# EAGLE library part MC74HC238A (library maincomputer parts)
MC74HC238A 1-of-8 Decoder/ Demultiplexer High−Performance Silicon−Gate CMOS The MC74HC238A is identical in pinout to the LS238. The device inputs are compatible with standard CMOS outputs; with pullup resistors, they are compatible with LSTTL outputs. The HC238A decodes a three−bit Address to one−of−eight active−high outputs. This device features three Chip Select inputs, two active−low and one active−high to facilitate the demultiplexing, cascading, and chip−selecting functions. The demultiplexing function is accomplished by using the Address inputs to select the desired device output; one of the Chip Selects is used as a data input while the other Chip Selects are held in their active states.
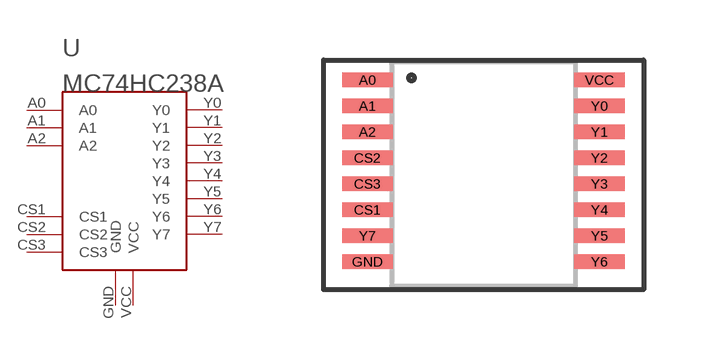
[diagram p2: symbol with the pads of TSSOP−16; footprint TSSOP−16]

Designator prefix -

## MC74HC238A (P: 30)  [TSSOP−16]
A0  A0
A1  A1
A2  A2
CS1  CS1
CS2  CS2
CS3  CS3
GND  GND
VCC  VCC
Y0  Y0
Y1  Y1
Y2  Y2
Y3  Y3
Y4  Y4
Y5  Y5
Y6  Y6
Y7  Y7

## Footprint TSSOP−16 (pad centres in mm)
smd 1.26 x 0.36: A0 0,0; A1 0,-0.65; A2 0,-1.3; CS1 0,-3.25; CS2 0,-1.95; CS3 0,-2.6; GND 0,-4.55; VCC 5.8,0; Y0 5.8,-0.65; Y1 5.8,-1.3; Y2 5.8,-1.95; Y3 5.8,-2.6; Y4 5.8,-3.25; Y5 5.8,-3.9; Y6 5.8,-4.55; Y7 0,-3.9